# Altium footprint library 0612_4TERM.PcbLib: 1 footprints
Each footprint in its own frame and in the unit in brackets; x right, y up, seen from the top. Pads: shape width x height; smd on the part's side, far side on the other; paste and mask are expansions set on the pad; w line width, h text height; cw(c..) or ccw(c..) is an arc to the next point about the centre after c.
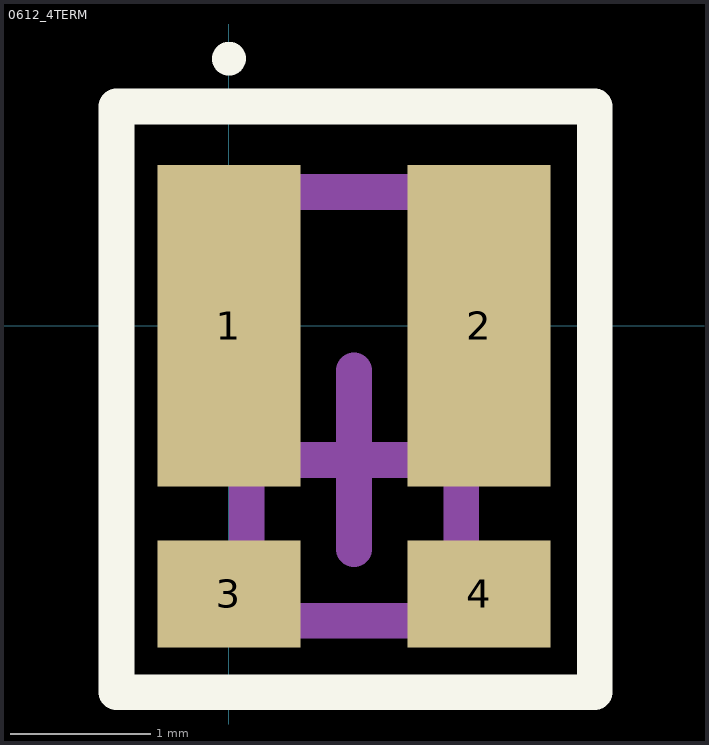
[diagram p0: the footprint, top view; thin cyan lines are the x and y axes]

## 0612_4TERM [mil]
pads (4):
  rect 40x90 smd paste+0 mask+0: 1(0,0) 2(70,0)
  rect 40x30 smd paste+0 mask+0: 3(0,-75) 4(70,-75)
Top Overlay:
  circle w7.87: c0,74.8 r0.79
  lines w10: -31.5,-102.5 102.36,-102.5 102.36,61.42 35,61.42 -31.5,61.42 -31.5,-102.5
Top Designator:
  text ".Designator" at -264.9,-36.38 h60
3D Body:
  lines w10: 5,-82.5 65,-82.5 65,37.5 5,37.5 5,-82.5
Center Cross:
  lines w10: 10,-37.5 35,-37.5 ; 35,-62.5 35,-37.5 ; 35,-12.5 35,-37.5 ; 60,-37.5 35,-37.5
3D body "0612_4TERM.stp": height 15.5, standoff 0.5, extent 5,-82.5 65,37.5